# EAGLE library part 615032149521 (library SD-kart)
WR-MJ_Modular Jack_Tab UP_8P8C_Assembly1x4 8P8C Tab UP_Pre-Assembly 1x4 <http://katalog.we-online.de/media/images/v2/Family_Con_WR-MJ_Horizontal_Plastic_6150xx149521_pf2.jpg> Details see: http://katalog.we-online.de/en/em/MJ_HORIZONTAL_PLASTIC_ASSEMBLY_8P8C_TAB_UP Created 2014-12-16, Dan Xu 2014 (C) Würth Elektronik
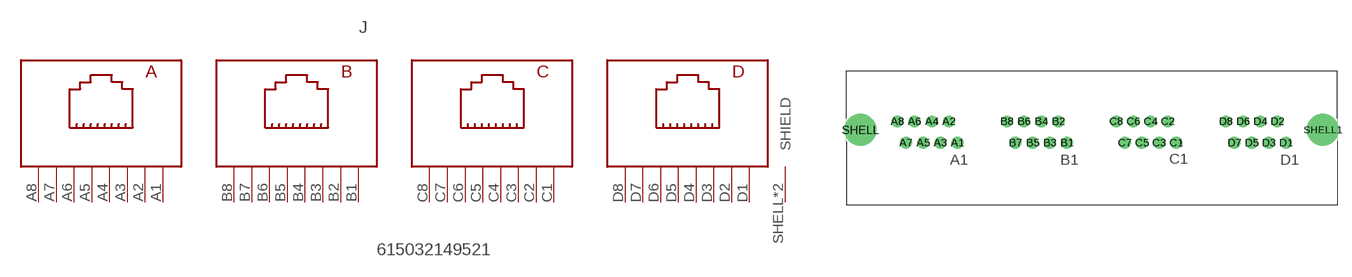
[diagram p160: symbol with the pads of 615032149521; footprint 615032149521]

Designator prefix J

## 615032149521  [615032149521]
A1  A1  pas
A2  A2  pas
A3  A3  pas
A4  A4  pas
A5  A5  pas
A6  A6  pas
A7  A7  pas
A8  A8  pas
B1  B1  pas
B2  B2  pas
B3  B3  pas
B4  B4  pas
B5  B5  pas
B6  B6  pas
B7  B7  pas
B8  B8  pas
C1  C1  pas
C2  C2  pas
C3  C3  pas
C4  C4  pas
C5  C5  pas
C6  C6  pas
C7  C7  pas
C8  C8  pas
D1  D1  pas
D2  D2  pas
D3  D3  pas
D4  D4  pas
D5  D5  pas
D6  D6  pas
D7  D7  pas
D8  D8  pas
SHELL  SHIELD  pas
SHELL1  SHIELD  pas

## Footprint 615032149521 (pad centres in mm)
WR-MJ_Modular Jack_Tab UP_8P8C_Assembly1x4 8P8C Tab UP_Pre-Assembly 1x4
drill 0.9: A1 -15.93,-1.54; A2 -16.95,1; A3 -17.97,-1.54; A4 -18.99,1; A5 -20.01,-1.54; A6 -21.03,1; A7 -22.05,-1.54; A8 -23.07,1; B1 -2.93,-1.54; B2 -3.95,1; B3 -4.97,-1.54; B4 -5.99,1; B5 -7.01,-1.54; B6 -8.03,1; B7 -9.05,-1.54; B8 -10.07,1; C1 10.05,-1.54; C2 9.03,1; C3 8.01,-1.54; C4 6.99,1; C5 5.97,-1.54; C6 4.95,1; C7 3.93,-1.54; C8 2.91,1; D1 23.07,-1.54; D2 22.05,1; D3 21.03,-1.54; D4 20.01,1; D5 18.99,-1.54; D6 17.97,1; D7 16.95,-1.54; D8 15.93,1
drill 2.8: SHELL -27.46,0; SHELL1 27.44,0